# EAGLE library part EM406 (library machine_science)
EM406 Connector Proven layout and schematic for EM406 connector. Spark Fun Electronics SKU : GPS-00579
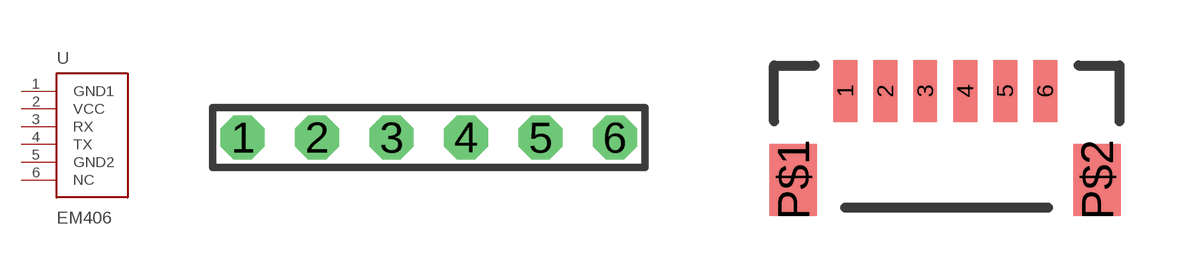
[diagram p21: symbol with the pads of J6; footprints J6, EM406]

Designator prefix -

## EM406DIP  [J6]
1  GND1
2  VCC
3  RX
4  TX
5  GND2
6  NC

## EM406FSMT  [EM406]
Pads as for J6

## Footprint J6 (pad centres in mm)
drill 0.991 octagon: 1 -6.35,1.27; 2 -3.81,1.27; 3 -1.27,1.27; 4 1.27,1.27; 5 3.81,1.27; 6 6.35,1.27

## Footprint EM406 (pad centres in mm)
smd 0.6 x 1.55: 1 0,0; 2 1,0; 3 2,0; 4 3,0; 5 4,0; 6 5,0
smd 1.2 x 1.8: P$1 -1.3,-2.225; P$2 6.3,-2.225